# Altium schematic symbol library Schlib.SchLib: 25 symbols (part 2 of 2)
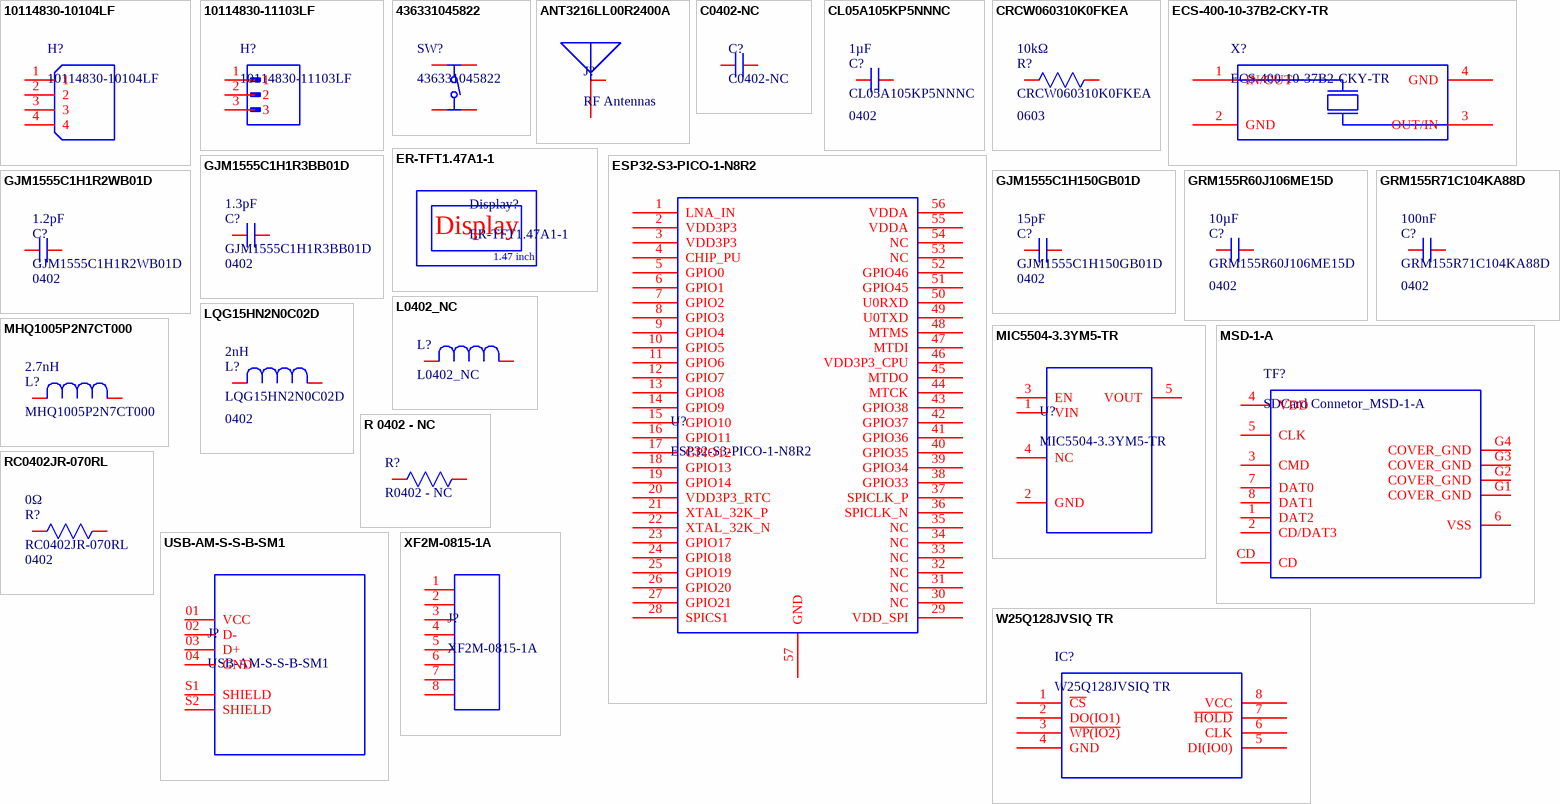
[diagram p1: symbols 10114830-10104LF to XF2M-0815-1A]

## GRM155R60J106ME15D
designator C?  value 10µF  Case/Package: 0402
6.3V 10uF X5R ±20% 0402 Multilayer Ceramic Capacitors MLCC - SMD/SMT ROHS; Manufacturer: Murata; Manufacturer Lifecycle Status: IN PRODUCTION; Supplier: DigiKey; Supplier Part Number: 490-13238-6-ND; Manufacturer Part Number: GRM155R60J106ME15D; RoHS: Compliant; Category: Ceramic Capacitors; Stock: 101484; Pricing: 1=0,16, 10=0,088, 50=0,0618, 100=0,0538, 500=0,04036, 1000=0,03624, 2500=0,0319, 5000=0,02929 (USD); Case Code (Imperial): 0402; Case Code (Metric): 1005; Dielectric: X5R; Dielectric Material: Ceramic; Height: 500µm; Length: 1mm; Lifecycle Status: Production; Material: Ceramic; Max Operating Temperature: 85°C; Min Operating Temperature: -55°C; Mounting Technology: Surface Mount; Number of Terminals: 2; REACH SVHC: Yes; Schedule B: 8532240020, 8532240020|8532240020, 8532240020|8532240020|8532240020, 8532240020|8532240020|8532240020|8532240020; Thickness: 500µm; Tolerance: 20%; Voltage Rating: 6.3V; Voltage Rating (DC): 6.3V; Width: 500µm; ComponentLink1URL: https://datasheet.octopart.com:443/GRM155R60J106ME15D-Murata-datasheet-149522992.pdf?src-supplier=Newark; ComponentLink1Description: https://datasheet.octopart.com:443/GRM155R60J106ME15D-Murata-datasheet-149522992.pdf?src-supplier=Newark; ComponentLink2URL: https://datasheet.octopart.com:443/GRM155R60J106ME15D-Murata-datasheet-165579666.pdf?src-supplier=TME; ComponentLink2Description: https://datasheet.octopart.com:443/GRM155R60J106ME15D-Murata-datasheet-165579666.pdf?src-supplier=TME; ComponentLink3URL: https://datasheet.octopart.com:443/GRM155R60J106ME15D-Murata-datasheet-141266224.pdf?src-supplier=Ciiva; ComponentLink3Description: https://datasheet.octopart.com:443/GRM155R60J106ME15D-Murata-datasheet-141266224.pdf?src-supplier=Ciiva; ComponentLink4URL: https://datasheet.octopart.com:443/GRM155R60J106ME15D-Murata-datasheet-140689297.pdf?src-supplier=Ciiva; ComponentLink4Description: https://datasheet.octopart.com:443/GRM155R60J106ME15D-Murata-datasheet-140689297.pdf?src-supplier=Ciiva; ComponentLink5URL: https://datasheet.octopart.com:443/GRM155R60J106ME15D-Murata-datasheet-138740639.pdf?src-supplier=Ciiva; ComponentLink5Description: https://datasheet.octopart.com:443/GRM155R60J106ME15D-Murata-datasheet-138740639.pdf?src-supplier=Ciiva; ComponentLink6URL: https://datasheet.octopart.com:443/GRM155R60J106ME15D-Murata-datasheet-102370999.pdf?src-supplier=HQonline; ComponentLink6Description: https://datasheet.octopart.com:443/GRM155R60J106ME15D-Murata-datasheet-102370999.pdf?src-supplier=HQonline; ComponentLink7URL: https://datasheet.octopart.com/GRM155R60J106ME15D-Murata-datasheet-12515295.pdf; ComponentLink7Description: https://datasheet.octopart.com/GRM155R60J106ME15D-Murata-datasheet-12515295.pdf; ComponentLink8URL: https://datasheet.octopart.com/GRM155R60J106ME15D-Murata-datasheet-12510076.pdf; ComponentLink8Description: https://datasheet.octopart.com/GRM155R60J106ME15D-Murata-datasheet-12510076.pdf; ComponentLink9URL: https://datasheet.octopart.com/GRM155R60J106ME15D-Murata-datasheet-11978611.pdf; ComponentLink9Description: https://datasheet.octopart.com/GRM155R60J106ME15D-Murata-datasheet-11978611.pdf; ComponentLink10URL: https://datasheet.octopart.com/GRM155R60J106ME15D-Murata-datasheet-10025737.pdf; ComponentLink10Description: https://datasheet.octopart.com/GRM155R60J106ME15D-Murata-datasheet-10025737.pdf; ComponentLink11URL: https://datasheet.octopart.com/GRM155R60J106ME15D-Murata-datasheet-8819587.pdf; ComponentLink11Description: https://datasheet.octopart.com/GRM155R60J106ME15D-Murata-datasheet-8819587.pdf; ComponentLink12URL: http://sigma.octopart.com:80/reach_statement/Murata-company-16.pdf?src-supplier=Compliance+Statements; ComponentLink12Description: http://sigma.octopart.com:80/reach_statement/Murata-company-16.pdf?src-supplier=Compliance+Statements; LCSC Part: C412251
footprint CAPC1005X55N
pins: 1, 2

## GRM155R71C104KA88D
designator C?  value 100nF  Case/Package: 0402
16V 100nF X7R ±10% 0402 Multilayer Ceramic Capacitors MLCC - SMD/SMT ROHS; Manufacturer: Murata; Manufacturer Lifecycle Status: NRND; Insulation Resistance: 10GΩ; Supplier: DigiKey; Supplier Part Number: 490-3261-1-ND; Manufacturer Part Number: GRM155R71C104KA88D; RoHS: Compliant; Category: Ceramic Capacitors; Stock: 10363582; Pricing: 1=0,1, 10=0,024, 50=0,0156, 100=0,0132, 500=0,00926, 1000=0,00805, 2500=0,00678, 5000=0,00602 (USD); Case Code (Imperial): 0402; Case Code (Metric): 1005; Country of Origin: Japan, Mainland China, Philippines, Singapore, Thailand; Depth: 500µm; Dielectric: X7R; Dielectric Material: Ceramic; Export Control Classification Number (ECCN) Code: EAR99; Height: 500µm; Harmonized Tariff Schedule (HTS) Code: 8532.24.00.20; Introduction Date: 2004-11-19; Lead Free: Lead Free; Length: 1mm; Lifecycle Status: NRND; Material: Ceramic; Max Operating Temperature: 125°C; Min Operating Temperature: -55°C; Mounting Technology: Surface Mount; Pins: 2; Number of Terminals: 2; Packaging: Cut Tape; Radiation Hardening: No; REACH SVHC: Yes; Schedule B: 8532240020, 8532240020|8532240020|8532240020|8532240020|8532240020|8532240020|8532240020|8532240020|8532240020|8532240020|8532240020|8532240020|8532240020, 8532240020|8532240020|8532240020|8532240020|8532240020|8532240020|8532240020|8532240020|8532240020|8532240020|8532240020|8532240020|8532240020|8532240020, 8532240020|8532240020|8532240020|8532240020|8532240020|8532240020|8532240020|8532240020|8532240020|8532240020|8532240020|8532240020|8532240020|8532240020|8532240020; Termination: SMD/SMT; Thickness: 500µm; Tolerance: 10%; Voltage: 16V; Voltage Rating: 16V; Voltage Rating (DC): 16V; Width: 500µm; ComponentLink1URL: https://datasheet.octopart.com:443/GRM155R71C104KA88D-Murata-datasheet-6387203.pdf?src-supplier=Upverter; ComponentLink1Description: https://datasheet.octopart.com:443/GRM155R71C104KA88D-Murata-datasheet-6387203.pdf?src-supplier=Upverter; ComponentLink2URL: https://datasheet.octopart.com:443/GRM155R71C104KA88D-Murata-datasheet-501912.pdf?src-supplier=Farnell; ComponentLink2Description: https://datasheet.octopart.com:443/GRM155R71C104KA88D-Murata-datasheet-501912.pdf?src-supplier=Farnell; ComponentLink3URL: https://datasheet.octopart.com:443/GRM155R71C104KA88D-Murata-datasheet-62320226.pdf?src-supplier=Farnell; ComponentLink3Description: https://datasheet.octopart.com:443/GRM155R71C104KA88D-Murata-datasheet-62320226.pdf?src-supplier=Farnell; ComponentLink4URL: https://datasheet.octopart.com:443/GRM155R71C104KA88D-Murata-datasheet-514334.pdf?src-supplier=Farnell; ComponentLink4Description: https://datasheet.octopart.com:443/GRM155R71C104KA88D-Murata-datasheet-514334.pdf?src-supplier=Farnell; ComponentLink5URL: https://datasheet.octopart.com:443/GRM155R71C104KA88D-Murata-datasheet-165579666.pdf?src-supplier=TME; ComponentLink5Description: https://datasheet.octopart.com:443/GRM155R71C104KA88D-Murata-datasheet-165579666.pdf?src-supplier=TME; ComponentLink6URL: https://datasheet.octopart.com:443/GRM155R71C104KA88D-Murata-datasheet-81455578.pdf?src-supplier=TME; ComponentLink6Description: https://datasheet.octopart.com:443/GRM155R71C104KA88D-Murata-datasheet-81455578.pdf?src-supplier=TME; ComponentLink7URL: https://datasheet.octopart.com:443/GRM155R71C104KA88D-Murata-datasheet-59876780.pdf?src-supplier=TME; ComponentLink7Description: https://datasheet.octopart.com:443/GRM155R71C104KA88D-Murata-datasheet-59876780.pdf?src-supplier=TME; ComponentLink8URL: https://datasheet.octopart.com:443/GRM155R71C104KA88D-Murata-datasheet-141266224.pdf?src-supplier=Ciiva; ComponentLink8Description: https://datasheet.octopart.com:443/GRM155R71C104KA88D-Murata-datasheet-141266224.pdf?src-supplier=Ciiva; ComponentLink9URL: https://datasheet.octopart.com:443/GRM155R71C104KA88D-Murata-datasheet-140690972.pdf?src-supplier=Ciiva; ComponentLink9Description: https://datasheet.octopart.com:443/GRM155R71C104KA88D-Murata-datasheet-140690972.pdf?src-supplier=Ciiva; ComponentLink10URL: https://datasheet.octopart.com:443/GRM155R71C104KA88D-Murata-datasheet-138740890.pdf?src-supplier=Ciiva; ComponentLink10Description: https://datasheet.octopart.com:443/GRM155R71C104KA88D-Murata-datasheet-138740890.pdf?src-supplier=Ciiva; ComponentLink11URL: https://datasheet.octopart.com:443/GRM155R71C104KA88D-Murata-datasheet-120101189.pdf?src-supplier=Megastar; ComponentLink11Description: https://datasheet.octopart.com:443/GRM155R71C104KA88D-Murata-datasheet-120101189.pdf?src-supplier=Megastar; ComponentLink12URL: https://datasheet.octopart.com:443/GRM155R71C104KA88D-Murata-datasheet-96971104.pdf?src-supplier=Future+Electronics; ComponentLink12Description: https://datasheet.octopart.com:443/GRM155R71C104KA88D-Murata-datasheet-96971104.pdf?src-supplier=Future+Electronics; ComponentLink13URL: https://datasheet.octopart.com:443/GRM155R71C104KA88D-Murata-datasheet-22122223.pdf?src-supplier=Future+Electronics; ComponentLink13Description: https://datasheet.octopart.com:443/GRM155R71C104KA88D-Murata-datasheet-22122223.pdf?src-supplier=Future+Electronics; ComponentLink14URL: https://datasheet.octopart.com:443/GRM155R71C104KA88D-Murata-datasheet-14400564.pdf?src-supplier=Future+Electronics; ComponentLink14Description: https://datasheet.octopart.com:443/GRM155R71C104KA88D-Murata-datasheet-14400564.pdf?src-supplier=Future+Electronics; ComponentLink15URL: https://datasheet.octopart.com:443/GRM155R71C104KA88D-Murata-datasheet-44106293.pdf?src-supplier=Future+Electronics; ComponentLink15Description: https://datasheet.octopart.com:443/GRM155R71C104KA88D-Murata-datasheet-44106293.pdf?src-supplier=Future+Electronics; ComponentLink16URL: https://datasheet.octopart.com/GRM155R71C104KA88D-Murata-datasheet-12515295.pdf; ComponentLink16Description: https://datasheet.octopart.com/GRM155R71C104KA88D-Murata-datasheet-12515295.pdf; ComponentLink17URL: https://datasheet.octopart.com/GRM155R71C104KA88D-Murata-datasheet-12510076.pdf; ComponentLink17Description: https://datasheet.octopart.com/GRM155R71C104KA88D-Murata-datasheet-12510076.pdf; ComponentLink18URL: https://datasheet.octopart.com/GRM155R71C104KA88D-Murata-datasheet-11978611.pdf; ComponentLink18Description: https://datasheet.octopart.com/GRM155R71C104KA88D-Murata-datasheet-11978611.pdf; ComponentLink19URL: https://datasheet.octopart.com/GRM155R71C104KA88D-Murata-datasheet-10025737.pdf; ComponentLink19Description: https://datasheet.octopart.com/GRM155R71C104KA88D-Murata-datasheet-10025737.pdf; ComponentLink20URL: https://datasheet.octopart.com/GRM155R71C104KA88D-Murata-datasheet-8819587.pdf; ComponentLink20Description: https://datasheet.octopart.com/GRM155R71C104KA88D-Murata-datasheet-8819587.pdf; ComponentLink21URL: https://datasheet.octopart.com/GRM155R71C104KA88D-Murata-datasheet-12555248.pdf; ComponentLink21Description: https://datasheet.octopart.com/GRM155R71C104KA88D-Murata-datasheet-12555248.pdf; ComponentLink22URL: https://datasheet.octopart.com:443/GRM155R71C104KA88D-Murata-datasheet-11864723.pdf?src-supplier=Arrow+Electronics; ComponentLink22Description: https://datasheet.octopart.com:443/GRM155R71C104KA88D-Murata-datasheet-11864723.pdf?src-supplier=Arrow+Electronics; ComponentLink23URL: https://datasheet.octopart.com:443/GRM155R71C104KA88D-Murata-datasheet-148211.pdf?src-supplier=Garrett; ComponentLink23Description: https://datasheet.octopart.com:443/GRM155R71C104KA88D-Murata-datasheet-148211.pdf?src-supplier=Garrett; ComponentLink24URL: https://datasheet.octopart.com:443/GRM155R71C104KA88D-Murata-datasheet-118811.pdf?src-supplier=DigiKey; ComponentLink24Description: https://datasheet.octopart.com:443/GRM155R71C104KA88D-Murata-datasheet-118811.pdf?src-supplier=DigiKey; ComponentLink25URL: https://datasheet.octopart.com:443/GRM155R71C104KA88D-Murata-datasheet-38265814.pdf?src-supplier=Newark; ComponentLink25Description: https://datasheet.octopart.com:443/GRM155R71C104KA88D-Murata-datasheet-38265814.pdf?src-supplier=Newark; ComponentLink26URL: http://sigma.octopart.com:80/reach_statement/Murata-company-16.pdf?src-supplier=Compliance+Statements; ComponentLink26Description: http://sigma.octopart.com:80/reach_statement/Murata-company-16.pdf?src-supplier=Compliance+Statements; LCSC Part: C71629
footprint CAPC1005X55N
pins: 1, 2

## L0402_NC
designator L?
footprint IND_1005_TDK_NC
pins: 1, 2

## LQG15HN2N0C02D
designator L?  value 2nH  Case/Package: 0402
General Purpose Inductor, 0.002uH, 10%, 1 Element, Reflow soldering, 1005/0402; Manufacturer: Murata; Manufacturer Lifecycle Status: IN PRODUCTION; Core Material: Air; Current Rating: 900mA; DC Resistance (DCR): 90mΩ; Number of Circuits: 1; Q Factor: 8; Self Resonant Frequency: 6GHz; Shielding: Unshielded; Test Frequency: 100MHz; Supplier: DigiKey; Supplier Part Number: 490-15076-6-ND; Manufacturer Part Number: LQG15HN2N0C02D; RoHS: Compliant; Category: Fixed Inductors; Stock: 65005; Pricing: 1=0,1, 10=0,045, 25=0,0416, 50=0,039, 100=0,0368, 250=0,03408, 500=0,03212, 1000=0,03028, 2500=0,02801 (USD); Country of Origin: Japan; Export Control Classification Number (ECCN) Code: EAR99; Height: 500µm; Harmonized Tariff Schedule (HTS) Code: 8504.50.80.00; Introduction Date: 2018-02-22; Length: 1mm; Lifecycle Status: Production; Max Current Rating: 900mA; Max Operating Temperature: 125°C; Min Operating Temperature: -55°C; Number of Terminals: 2; REACH SVHC: Yes; RMS Current (Irms): 900mA; Schedule B: 8504500000, 8504500000|8504500000|8504500000|8504500000|8504500000; ESR: 90mΩ; Tolerance: 10%; Width: 500µm; ComponentLink1URL: https://datasheet.octopart.com:443/LQG15HN2N0C02D-Murata-datasheet-141286051.pdf?src-supplier=Ciiva; ComponentLink1Description: https://datasheet.octopart.com:443/LQG15HN2N0C02D-Murata-datasheet-141286051.pdf?src-supplier=Ciiva; ComponentLink2URL: https://datasheet.octopart.com:443/LQG15HN2N0C02D-Murata-datasheet-140712106.pdf?src-supplier=Ciiva; ComponentLink2Description: https://datasheet.octopart.com:443/LQG15HN2N0C02D-Murata-datasheet-140712106.pdf?src-supplier=Ciiva; ComponentLink3URL: https://datasheet.octopart.com:443/LQG15HN2N0C02D-Murata-datasheet-138753224.pdf?src-supplier=Ciiva; ComponentLink3Description: https://datasheet.octopart.com:443/LQG15HN2N0C02D-Murata-datasheet-138753224.pdf?src-supplier=Ciiva; ComponentLink4URL: https://datasheet.octopart.com:443/LQG15HN2N0C02D-Murata-datasheet-142219898.pdf?src-supplier=Arrow.cn; ComponentLink4Description: https://datasheet.octopart.com:443/LQG15HN2N0C02D-Murata-datasheet-142219898.pdf?src-supplier=Arrow.cn; ComponentLink5URL: https://datasheet.octopart.com:443/LQG15HN2N0C02D-Murata-datasheet-140568920.pdf?src-supplier=Arrow.cn; ComponentLink5Description: https://datasheet.octopart.com:443/LQG15HN2N0C02D-Murata-datasheet-140568920.pdf?src-supplier=Arrow.cn; ComponentLink6URL: https://datasheet.octopart.com:443/LQG15HN2N0C02D-Murata-datasheet-145449623.pdf?src-supplier=Geoflip; ComponentLink6Description: https://datasheet.octopart.com:443/LQG15HN2N0C02D-Murata-datasheet-145449623.pdf?src-supplier=Geoflip; ComponentLink7URL: https://datasheet.octopart.com:443/LQG15HN2N0C02D-Murata-datasheet-140317006.pdf?src-supplier=Farnell; ComponentLink7Description: https://datasheet.octopart.com:443/LQG15HN2N0C02D-Murata-datasheet-140317006.pdf?src-supplier=Farnell; ComponentLink8URL: http://sigma.octopart.com:80/reach_statement/Murata-company-16.pdf?src-supplier=Compliance+Statements; ComponentLink8Description: http://sigma.octopart.com:80/reach_statement/Murata-company-16.pdf?src-supplier=Compliance+Statements; LCSC Part: C2043639
footprint INDC1005X55N
pins: 1, 2

## MHQ1005P2N7CT000
designator L?  value 2.7nH
General Purpose Inductor, 0.0027uH, 7.4074%, 1 Element, Ceramic-Core, SMD, 0402; Manufacturer: TDK; Manufacturer Lifecycle Status: PRODUCTION; Current Rating: 900mA; DC Resistance (DCR): 70mΩ; Number of Circuits: 1; Q Factor: 23; Self Resonant Frequency: 6.5GHz; Shielding: Unshielded; Test Frequency: 100MHz; Tolerance: 0.07%; Supplier: DigiKey; Supplier Part Number: 445-172420-2-ND; Manufacturer Part Number: MHQ1005P2N7CT000; RoHS: Compliant; Category: Fixed Inductors; Stock: 10000; Pricing: 10000=0,05758, 20000=0,0543, 30000=0,05247, 50000=0,05025, 70000=0,04884, 100000=0,04739 (USD); Case/Package: 0402; Case Code (Imperial): 0402; Case Code (Metric): 1005; Core Material: Ceramic; Export Control Classification Number (ECCN) Code: EAR99; Height: 500µm; Height - Seated (Max): 609.6µm; Harmonized Tariff Schedule (HTS) Code: 8504.50.80.00; Introduction Date: 2013-10-01; Length: 1mm; Lifecycle Status: Production; Max Current Rating: 900mA; Max DC Current: 900mA; Max Length: 1.05mm; Max Operating Temperature: 125°C; Max Width: 650µm; Min Length: 950µm; Min Operating Temperature: -55°C; Min Width: 550µm; Mounting Technology: Surface Mount; Number of Terminals: 2; Packaging: Cut Tape (CT); REACH SVHC: Yes; Termination: SMD/SMT; Weight: 652.039032µg; Width: 600µm; ComponentLink1URL: https://datasheet.octopart.com:443/MHQ1005P2N7CT000-TDK-datasheet-181268076.pdf?src-supplier=IHS; ComponentLink1Description: https://datasheet.octopart.com:443/MHQ1005P2N7CT000-TDK-datasheet-181268076.pdf?src-supplier=IHS; ComponentLink2URL: https://datasheet.octopart.com:443/MHQ1005P2N7CT000-TDK-datasheet-155380095.pdf?src-supplier=ODG+(Origin+Data+Global); ComponentLink2Description: https://datasheet.octopart.com:443/MHQ1005P2N7CT000-TDK-datasheet-155380095.pdf?src-supplier=ODG+(Origin+Data+Global); ComponentLink3URL: https://datasheet.octopart.com:443/MHQ1005P2N7CT000-TDK-datasheet-136874815.pdf?src-supplier=TME; ComponentLink3Description: https://datasheet.octopart.com:443/MHQ1005P2N7CT000-TDK-datasheet-136874815.pdf?src-supplier=TME; ComponentLink4URL: https://datasheet.octopart.com:443/MHQ1005P2N7CT000-TDK-datasheet-41546101.pdf?src-supplier=Future+Electronics; ComponentLink4Description: https://datasheet.octopart.com:443/MHQ1005P2N7CT000-TDK-datasheet-41546101.pdf?src-supplier=Future+Electronics; LCSC Part: C434841
footprint IND_1005_TDK
pins: 1, 2

## MIC5504-3.3YM5-TR
designator U?
MIC5504 Series 3.3 V 300 mA Surface Mount Fixed Single Output LDO - SOT-23-5; Manufacturer: Microchip; Manufacturer Lifecycle Status: REL; Accuracy: 2%; Dropout Voltage: 160mV; Max Supply Voltage: 5.5V; Max Junction Temperature (Tj): 125°C; Max Output current: 300mA; Min Current Limit: 400mA; Min Input Voltage: 2.5V; Nominal Output Voltage: 3.3V; Number of Channels: 1; Operating Supply Current: 42µA; Output Voltage: 3.3mV; Power Supply Rejection Ratio (PSRR): 60dB; Quiescent Current: 38µA; Supplier: DigiKey; Supplier Part Number: 576-4764-6-ND; Manufacturer Part Number: MIC5504-3.3YM5-TR; RoHS: Compliant; Category: LDO Voltage Regulators; Stock: 122252; Pricing: 1=0,16, 25=0,1224 (USD); Projected EOL Date: 2039-05-20; Case/Package: SOT-23; Country of Assembly: Thailand; Country of Fabrication: South Korea; Country of Origin: Thailand; Export Control Classification Number (ECCN) Code: EAR99; Height: 1.45mm; HS Code: 8542.39.0090; Harmonized Tariff Schedule (HTS) Code: 8542.39.0060; Lead Free: Lead Free; Length: 2.9mm; Lifecycle Status: Production; Max Operating Temperature: 125°C; Min Operating Temperature: -40°C; Min Supply Voltage: 2.5V; Mounting Technology: Surface Mount; Number of Outputs: 1; Pins: 5; Number of Regulators: 1; Output Current: 300mA; Output Type: Fixed; Packaging: Cut Tape; REACH SVHC: No; Schedule B: 8542390000, 8542390000|8542390000|8542390000|8542390000|8542390000; Width: 1.6mm; ComponentLink1URL: https://datasheet.octopart.com:443/MIC5504-3.3YM5-TR-Microchip-datasheet-178203070.pdf?src-supplier=Microchip; ComponentLink1Description: https://datasheet.octopart.com:443/MIC5504-3.3YM5-TR-Microchip-datasheet-178203070.pdf?src-supplier=Microchip; ComponentLink2URL: https://datasheet.octopart.com:443/MIC5504-3.3YM5-TR-Microchip-datasheet-137404938.pdf?src-supplier=Microchip; ComponentLink2Description: https://datasheet.octopart.com:443/MIC5504-3.3YM5-TR-Microchip-datasheet-137404938.pdf?src-supplier=Microchip; ComponentLink3URL: https://datasheet.octopart.com:443/MIC5504-3.3YM5-TR-Microchip-datasheet-138897052.pdf?src-supplier=SOS+electronic; ComponentLink3Description: https://datasheet.octopart.com:443/MIC5504-3.3YM5-TR-Microchip-datasheet-138897052.pdf?src-supplier=SOS+electronic; ComponentLink4URL: https://datasheet.octopart.com:443/MIC5504-3.3YM5-TR-Microchip-datasheet-61114938.pdf?src-supplier=element14+APAC; ComponentLink4Description: https://datasheet.octopart.com:443/MIC5504-3.3YM5-TR-Microchip-datasheet-61114938.pdf?src-supplier=element14+APAC; ComponentLink5URL: https://datasheet.octopart.com:443/MIC5504-3.3YM5-TR-Microchip-datasheet-33028821.pdf?src-supplier=Newark; ComponentLink5Description: https://datasheet.octopart.com:443/MIC5504-3.3YM5-TR-Microchip-datasheet-33028821.pdf?src-supplier=Newark; ComponentLink6URL: https://datasheet.octopart.com:443/MIC5504-3.3YM5-TR-Microchip-datasheet-137453438.pdf?src-supplier=Master+Electronics; ComponentLink6Description: https://datasheet.octopart.com:443/MIC5504-3.3YM5-TR-Microchip-datasheet-137453438.pdf?src-supplier=Master+Electronics; ComponentLink7URL: https://datasheet.octopart.com:443/MIC5504-3.3YM5-TR-Microchip-datasheet-142675560.pdf?src-supplier=TME; ComponentLink7Description: https://datasheet.octopart.com:443/MIC5504-3.3YM5-TR-Microchip-datasheet-142675560.pdf?src-supplier=TME; ComponentLink8URL: http://sigma.octopart.com:80/188454461/materials_sheet/Microchip-MIC5504-3.3YM5-TR.pdf?src-supplier=Compliance+Statements; ComponentLink8Description: http://sigma.octopart.com:80/188454461/materials_sheet/Microchip-MIC5504-3.3YM5-TR.pdf?src-supplier=Compliance+Statements; ComponentLink9URL: http://sigma.octopart.com:80/rohs_statement/Microchip-company-71.pdf?src-supplier=Compliance+Statements; ComponentLink9Description: http://sigma.octopart.com:80/rohs_statement/Microchip-company-71.pdf?src-supplier=Compliance+Statements; ComponentLink10URL: http://sigma.octopart.com:80/reach_statement/Microchip-company-70.pdf?src-supplier=Compliance+Statements; ComponentLink10Description: http://sigma.octopart.com:80/reach_statement/Microchip-company-70.pdf?src-supplier=Compliance+Statements; ComponentLink11URL: http://sigma.octopart.com:80/conflict_mineral_statement/Microchip-company-69.pdf?src-supplier=Compliance+Statements; ComponentLink11Description: http://sigma.octopart.com:80/conflict_mineral_statement/Microchip-company-69.pdf?src-supplier=Compliance+Statements; ComponentLink12URL: http://sigma.octopart.com:80/conflict_mineral_statement/Microchip-company-68.pdf?src-supplier=Compliance+Statements; ComponentLink12Description: http://sigma.octopart.com:80/conflict_mineral_statement/Microchip-company-68.pdf?src-supplier=Compliance+Statements; LCSC Part: C88419
footprint SOT-23-5_MC_MCH
pins: 1 VIN, 2 GND, 3 EN, 4 NC, 5 VOUT

## MSD-1-A
designator TF?, comment SDCard Connetor_MSD-1-A
Card Connector, Micro Sd, Push In Auto Eject Out Rohs Compliant: Yes |Same Sky MSD-1-A; Number of Contacts: 9; Supplier: DigiKey; Supplier Part Number: 2223-MSD-1-ADKR-ND; Manufacturer: Same Sky; Manufacturer Part Number: MSD-1-A; RoHS: Compliant; Category: Card Edge Connectors; Stock: 22918; Pricing: 1=0,38, 10=0,337, 25=0,3212, 50=0,3096, 100=0,2985, 250=0,28452, 500=0,27438 (USD); Lifecycle Status: Production; Pins: 9; ComponentLink1URL: https://datasheet.octopart.com:443/MSD-1-A-Same-Sky-datasheet-188826037.pdf?src-supplier=Future+Electronics; ComponentLink1Description: https://datasheet.octopart.com:443/MSD-1-A-Same-Sky-datasheet-188826037.pdf?src-supplier=Future+Electronics; ComponentLink2URL: https://datasheet.octopart.com:443/MSD-1-A-Same-Sky-datasheet-181916823.pdf?src-supplier=Same+Sky; ComponentLink2Description: https://datasheet.octopart.com:443/MSD-1-A-Same-Sky-datasheet-181916823.pdf?src-supplier=Same+Sky; ComponentLink3URL: https://datasheet.octopart.com:443/MSD-1-A-Same-Sky-datasheet-187906752.pdf?src-supplier=Master+Electronics; ComponentLink3Description: https://datasheet.octopart.com:443/MSD-1-A-Same-Sky-datasheet-187906752.pdf?src-supplier=Master+Electronics; ComponentLink4URL: https://datasheet.octopart.com:443/MSD-1-A-Same-Sky-datasheet-189105030.pdf?src-supplier=Master+Electronics; ComponentLink4Description: https://datasheet.octopart.com:443/MSD-1-A-Same-Sky-datasheet-189105030.pdf?src-supplier=Master+Electronics; ComponentLink5URL: https://datasheet.octopart.com:443/MSD-1-A-Same-Sky-datasheet-192927133.pdf?src-supplier=Farnell; ComponentLink5Description: https://datasheet.octopart.com:443/MSD-1-A-Same-Sky-datasheet-192927133.pdf?src-supplier=Farnell; ComponentLink6URL: https://octopart.com:443/opatz8j6/c1?t=vp1p1RiQ7_bbECyTA0y4sfTKdNK0uxHJB4IJybVem8wfn_d81AkevM-28rbvRvGobWwflIHzG1kFMVOfj4kHg7XvkbfSCEJ7QJUOw8RagXeSWULw5ToeuFDdJR7Bt4vxDtry0ssBHcqByyX6VfftwN1L4faraza0AI-7RGbWMwA6F9LSqLt9_EMr0BxlEhXuXrshFT8wtW-WV5rQURwZJFG16ertrOprtftK68kM6a6LFeToBh8QSflZEyNvhx9JPCtmtoosfXqgwYVYCg7S3alAAaytfdeoLFI4QoT-ekVsdXkV83oacCLK0qWz3So_Qz_4GnTlkdSuyzdB_i-sEeuXWT3vb9ZdCw&src-supplier=Compliance+Statements; ComponentLink6Description: https://octopart.com:443/opatz8j6/c1?t=vp1p1RiQ7_bbECyTA0y4sfTKdNK0uxHJB4IJybVem8wfn_d81AkevM-28rbvRvGobWwflIHzG1kFMVOfj4kHg7XvkbfSCEJ7QJUOw8RagXeSWULw5ToeuFDdJR7Bt4vxDtry0ssBHcqByyX6VfftwN1L4faraza0AI-7RGbWMwA6F9LSqLt9_EMr0BxlEhXuXrshFT8wtW-WV5rQURwZJFG16ertrOprtftK68kM6a6LFeToBh8QSflZEyNvhx9JPCtmtoosfXqgwYVYCg7S3alAAaytfdeoLFI4QoT-ekVsdXkV83oacCLK0qWz3So_Qz_4GnTlkdSuyzdB_i-sEeuXWT3vb9ZdCw&src-supplier=Compliance+Statements; ComponentLink7URL: https://octopart.com:443/opatz8j6/c1?t=wAi6ISJASBnr8eO6lSjSIHP2me3m_9JM9t7W5VqSuSqxXYYJcLah3NUVD-7KOeeDFDGTRMzH8uuSVpkC-dK8fDh7z78_Zz7yIXmwbgIJI1qZCq7xwXiaEBLQXT6ZnDMy6rrDwlb80FwwLiQM50BkdkbR5EeE1LfLeWHnwravg99_jLWlkSIiScvx2zQpJINNM4l5hIZMqDUJfGPmTvGFOpba4p3TKJetJ1SK5RMzhW7EBLCMyaFc11RY6XyCtek_Rl1wWLfJ0x3653ljfiWvaBt52Rr3c_7yFcHOKK0ZDwbDeFPkBPIVfLA_uDjBt4Uz3XRATwQr3zhnt-anWoerKFWB3yJpHzj1KQ&src-supplier=Compliance+Statements; ComponentLink7Description: https://octopart.com:443/opatz8j6/c1?t=wAi6ISJASBnr8eO6lSjSIHP2me3m_9JM9t7W5VqSuSqxXYYJcLah3NUVD-7KOeeDFDGTRMzH8uuSVpkC-dK8fDh7z78_Zz7yIXmwbgIJI1qZCq7xwXiaEBLQXT6ZnDMy6rrDwlb80FwwLiQM50BkdkbR5EeE1LfLeWHnwravg99_jLWlkSIiScvx2zQpJINNM4l5hIZMqDUJfGPmTvGFOpba4p3TKJetJ1SK5RMzhW7EBLCMyaFc11RY6XyCtek_Rl1wWLfJ0x3653ljfiWvaBt52Rr3c_7yFcHOKK0ZDwbDeFPkBPIVfLA_uDjBt4Uz3XRATwQr3zhnt-anWoerKFWB3yJpHzj1KQ&src-supplier=Compliance+Statements; LCSC Part: C20619272
footprint CUI_MSD-1-A
pins: 1 DAT2, 2 CD/DAT3, 3 CMD, 4 VDD, 5 CLK, 6 VSS, 7 DAT0, 8 DAT1, CD, G1 COVER_GND, G2 COVER_GND, G3 COVER_GND, G4 COVER_GND

## R 0402 - NC
designator R?, comment R0402 - NC
footprint R 0402-NC
pins: 1, 2

## RC0402JR-070RL
designator R?  value 0Ω  Case/Package: 0402
GENERAL PURPOSE CHIP RESISTOR Metal Glaze/thick Film, 0.0625W, 0ohm, Surface Mount, 0402; Manufacturer: Yageo Group; Max Power Dissipation: 63mW; Power Rating: 62.5mW; Temperature Coefficient: 200ppm/°C; Tolerance: 5%; Voltage Rating: 50V; Supplier: DigiKey; Supplier Part Number: 311-0.0JRDKR-ND; Manufacturer Part Number: RC0402JR-070RL; RoHS: Compliant; Category: Chip SMD Resistors; Stock: 12719023; Pricing: 1=0,1, 10=0,010, 25=0,0064, 50=0,0056, 100=0,0048, 250=0,00404, 500=0,00356, 1000=0,00313, 5000=0,00237 (USD); Case Code (Imperial): 0402; China RoHS: Non-Compliant; Composition: Thick Film; Contact Plating: Tin; Depth: 500µm; Features: Moisture Resistant; Height: 350µm; Lead Free: Lead Free; Length: 1mm; Lifecycle Status: Production; Max Operating Temperature: 155°C; Military Standard: Not; Min Operating Temperature: -55°C; Mounting Technology: Surface Mount; Pins: 2; Number of Terminals: 2; Number of Terminations: 2; Packaging: Tape & Reel; Radiation Hardening: No; REACH SVHC: Yes; Schedule B: 8533290000, 8533290000|8533290000, 8533290000|8533290000|8533290000, 8533290000|8533290000|8533290000|8533290000; Termination: SMD/SMT; Voltage Rating (DC): 50V; Width: 500µm; ComponentLink1URL: https://datasheet.octopart.com:443/RC0402JR-070RL-Yageo-datasheet-182189538.pdf?src-supplier=IHS; ComponentLink1Description: https://datasheet.octopart.com:443/RC0402JR-070RL-Yageo-datasheet-182189538.pdf?src-supplier=IHS; ComponentLink2URL: https://datasheet.octopart.com:443/RC0402JR-070RL-Yageo-datasheet-10408619.pdf?src-supplier=Newark; ComponentLink2Description: https://datasheet.octopart.com:443/RC0402JR-070RL-Yageo-datasheet-10408619.pdf?src-supplier=Newark; ComponentLink3URL: https://datasheet.octopart.com:443/RC0402JR-070RL-Yageo-Group-datasheet-181964826.pdf?src-supplier=Newark; ComponentLink3Description: https://datasheet.octopart.com:443/RC0402JR-070RL-Yageo-Group-datasheet-181964826.pdf?src-supplier=Newark; ComponentLink4URL: https://datasheet.octopart.com:443/RC0402JR-070RL-Yageo-Group-datasheet-190305687.pdf?src-supplier=Future+Electronics; ComponentLink4Description: https://datasheet.octopart.com:443/RC0402JR-070RL-Yageo-Group-datasheet-190305687.pdf?src-supplier=Future+Electronics; ComponentLink5URL: https://datasheet.octopart.com:443/RC0402JR-070RL-Yageo-datasheet-164759695.pdf?src-supplier=Future+Electronics; ComponentLink5Description: https://datasheet.octopart.com:443/RC0402JR-070RL-Yageo-datasheet-164759695.pdf?src-supplier=Future+Electronics; ComponentLink6URL: https://datasheet.octopart.com:443/RC0402JR-070RL-Yageo-datasheet-137700087.pdf?src-supplier=Future+Electronics; ComponentLink6Description: https://datasheet.octopart.com:443/RC0402JR-070RL-Yageo-datasheet-137700087.pdf?src-supplier=Future+Electronics; ComponentLink7URL: https://datasheet.octopart.com:443/RC0402JR-070RL-Yageo-datasheet-12531192.pdf?src-supplier=Seeed+Studio; ComponentLink7Description: https://datasheet.octopart.com:443/RC0402JR-070RL-Yageo-datasheet-12531192.pdf?src-supplier=Seeed+Studio; ComponentLink8URL: https://datasheet.octopart.com:443/RC0402JR-070RL-Yageo-datasheet-8324527.pdf?src-supplier=TME; ComponentLink8Description: https://datasheet.octopart.com:443/RC0402JR-070RL-Yageo-datasheet-8324527.pdf?src-supplier=TME; ComponentLink9URL: https://datasheet.octopart.com:443/RC0402JR-070RL-Yageo-datasheet-62067350.pdf?src-supplier=Farnell; ComponentLink9Description: https://datasheet.octopart.com:443/RC0402JR-070RL-Yageo-datasheet-62067350.pdf?src-supplier=Farnell; ComponentLink10URL: https://datasheet.octopart.com:443/RC0402JR-070RL-Yageo-datasheet-8329306.pdf?src-supplier=element14; ComponentLink10Description: https://datasheet.octopart.com:443/RC0402JR-070RL-Yageo-datasheet-8329306.pdf?src-supplier=element14; ComponentLink11URL: https://datasheet.octopart.com:443/RC0402JR-070RL-Yageo-datasheet-505231.pdf?src-supplier=element14; ComponentLink11Description: https://datasheet.octopart.com:443/RC0402JR-070RL-Yageo-datasheet-505231.pdf?src-supplier=element14; ComponentLink12URL: https://datasheet.octopart.com:443/RC0402JR-070RL-Yageo-datasheet-175423674.pdf?src-supplier=SOS+electronic; ComponentLink12Description: https://datasheet.octopart.com:443/RC0402JR-070RL-Yageo-datasheet-175423674.pdf?src-supplier=SOS+electronic; ComponentLink13URL: https://datasheet.octopart.com/RC0402JR-070RL-Yageo-datasheet-73766026.pdf; ComponentLink13Description: https://datasheet.octopart.com/RC0402JR-070RL-Yageo-datasheet-73766026.pdf; ComponentLink14URL: http://sigma.octopart.com:80/conflict_mineral_statement/Yageo-company-3.pdf?src-supplier=Compliance+Statements; ComponentLink14Description: http://sigma.octopart.com:80/conflict_mineral_statement/Yageo-company-3.pdf?src-supplier=Compliance+Statements; ComponentLink15URL: http://sigma.octopart.com:80/rohs_statement/Yageo-company-2.pdf?src-supplier=Compliance+Statements; ComponentLink15Description: http://sigma.octopart.com:80/rohs_statement/Yageo-company-2.pdf?src-supplier=Compliance+Statements; LCSC Part: C60485
footprint RC0402N_YAG-M
pins: 1, 2

## USB-AM-S-S-B-SM1
designator J?
USB Connector, USB Type A, USB 2.0, Plug, 4 Positions, Surface Mount, Right Angle; Manufacturer: Samtec; Manufacturer Lifecycle Status: PRODUCTION; Gender: Male; Max Voltage Rating (AC): 30V; Number of Contacts: 4; Number of Ports: 1; Supplier: DigiKey; Supplier Part Number: SAM13046-ND; Manufacturer Part Number: USB-AM-S-S-B-SM1; RoHS: Compliant; Category: Coaxial / RF Cable Assemblies; Stock: 10; Pricing: 1=3,56, 50=2,901, 100=2,462, 500=2,345 (USD); Contact Material: Bronze; Contact Plating: Gold; Depth: 20.7mm; Housing Material: Thermoplastic; Length: 12.5mm; Lifecycle Status: Production; Max Operating Temperature: 85°C; Min Operating Temperature: -50°C; Mounting Technology: Surface Mount; Number of Terminals: 4; Orientation: Right Angle; Packaging: Bulk; Radiation Hardening: No; Termination: Solder; ComponentLink1URL: https://datasheet.octopart.com:443/USB-AM-S-S-B-SM1-Samtec-datasheet-97369336.pdf?src-supplier=Sager+Electronics; ComponentLink1Description: https://datasheet.octopart.com:443/USB-AM-S-S-B-SM1-Samtec-datasheet-97369336.pdf?src-supplier=Sager+Electronics; ComponentLink2URL: https://datasheet.octopart.com:443/USB-AM-S-S-B-SM1-Samtec-datasheet-154665717.pdf?src-supplier=Sager+Electronics; ComponentLink2Description: https://datasheet.octopart.com:443/USB-AM-S-S-B-SM1-Samtec-datasheet-154665717.pdf?src-supplier=Sager+Electronics; ComponentLink3URL: https://sigma.octopart.com:443/97369342/technical_drawing/Samtec-USB-AM-S-S-B-SM1.pdf?src-supplier=Samtec; ComponentLink3Description: https://sigma.octopart.com:443/97369342/technical_drawing/Samtec-USB-AM-S-S-B-SM1.pdf?src-supplier=Samtec; ComponentLink4URL: https://datasheet.octopart.com:443/USB-AM-S-S-B-SM1-Samtec-datasheet-150883678.pdf?src-supplier=Electro+Sonic; ComponentLink4Description: https://datasheet.octopart.com:443/USB-AM-S-S-B-SM1-Samtec-datasheet-150883678.pdf?src-supplier=Electro+Sonic; ComponentLink5URL: https://datasheet.octopart.com:443/USB-AM-S-S-B-SM1-Samtec-datasheet-130009934.pdf?src-supplier=Electro+Sonic; ComponentLink5Description: https://datasheet.octopart.com:443/USB-AM-S-S-B-SM1-Samtec-datasheet-130009934.pdf?src-supplier=Electro+Sonic; ComponentLink6URL: https://datasheet.octopart.com:443/USB-AM-S-S-B-SM1-Samtec-datasheet-21561734.pdf?src-supplier=Farnell; ComponentLink6Description: https://datasheet.octopart.com:443/USB-AM-S-S-B-SM1-Samtec-datasheet-21561734.pdf?src-supplier=Farnell; ComponentLink7URL: https://datasheet.octopart.com:443/USB-AM-S-S-B-SM1-Samtec-datasheet-180264035.pdf?src-supplier=JRH+Electronics; ComponentLink7Description: https://datasheet.octopart.com:443/USB-AM-S-S-B-SM1-Samtec-datasheet-180264035.pdf?src-supplier=JRH+Electronics; ComponentLink8URL: https://datasheet.octopart.com:443/USB-AM-S-S-B-SM1-Samtec-datasheet-120095689.pdf?src-supplier=Toby+Electronics; ComponentLink8Description: https://datasheet.octopart.com:443/USB-AM-S-S-B-SM1-Samtec-datasheet-120095689.pdf?src-supplier=Toby+Electronics; ComponentLink9URL: https://datasheet.octopart.com:443/USB-AM-S-S-B-SM1-Samtec-datasheet-116536465.pdf?src-supplier=Toby+Electronics; ComponentLink9Description: https://datasheet.octopart.com:443/USB-AM-S-S-B-SM1-Samtec-datasheet-116536465.pdf?src-supplier=Toby+Electronics; ComponentLink10URL: https://datasheet.octopart.com:443/USB-AM-S-S-B-SM1-Samtec-datasheet-13694303.pdf?src-supplier=_legacy+Avnet; ComponentLink10Description: https://datasheet.octopart.com:443/USB-AM-S-S-B-SM1-Samtec-datasheet-13694303.pdf?src-supplier=_legacy+Avnet; LCSC Part: C7374540
footprint SAMTEC_USB-AM-S-X-X-SM1
pins: 01 VCC, 02 D-, 03 D+, 04 GND, S1 SHIELD, S2 SHIELD

## W25Q128JVSIQ TR
designator IC?
NOR Flash Serial (SPI, Dual SPI, Quad SPI) 3V/3.3V 128M-bit 16M x 8 6ns 8-Pin SOIC T/R; Manufacturer: Winbond; Frequency: 104MHz; Interface: SPI, Serial; Memory Format: FLASH, NOR; Supplier: DigiKey; Supplier Part Number: 256-W25Q128JVSIQTRCT-ND; Manufacturer Part Number: W25Q128JVSIQ TR; RoHS: Compliant; Category: Flash; Stock: 40140; Pricing: 1=3,72, 10=3,468, 25=3,3672, 50=3,29, 100=3,2127, 250=3,11104, 500=3,03472, 1000=2,95921 (USD); Case/Package: SOIC; Max Operating Temperature: 85°C; Min Operating Temperature: -40°C; Schedule B: 8542320070, 8542320070|8542320070, 8542320070|8542320070|8542320070, 8542320070|8542320070|8542320070|8542320070; ComponentLink1URL: https://datasheet.octopart.com:443/W25Q128JVSIQ-TR-Winbond-datasheet-138104337.pdf?src-supplier=Augswan; ComponentLink1Description: https://datasheet.octopart.com:443/W25Q128JVSIQ-TR-Winbond-datasheet-138104337.pdf?src-supplier=Augswan; LCSC Part: C97521
footprint SOIC_208MIL_WIN-M
pins: 1 ~{CS}, 2 DO(IO1), 3 ~{WP(IO2)}, 4 GND, 5 DI(IO0), 6 CLK, 7 ~{HOLD}, 8 VCC

## XF2M-0815-1A
designator J?
Conn FFC/FPC Connector SKT 8 POS 0.5mm Solder RA SMD Reel; Manufacturer: Omron Electronics Inc-EMC Div; Actuator Material: Liquid Crystal Polymer, Polymer; Contact Location: Side; Contact Resistance: 50mΩ; Current Rating: 500mA; Dielectric Material: Liquid Crystal Polymer; Gender: Receptacle; Insulation Resistance: 100MΩ; Max Voltage Rating (DC): 5.05kV; Number of Contacts: 8; Pitch: 508µm; Plating Thickness: 152.4nm; Voltage Rating: 50V; Wire/Cable Type: Flat Flex; Supplier: Digikey; Supplier Part Number: OR1109CT-ND; Manufacturer Part Number: XF2M-0815-1A; RoHS: Compliant; Category: Card Edge Connectors; Stock: 7488; Pricing: 1=1,33, 10=1,14, 50=1, 100=0,963, 1000=0,774, 10000=0,694 (USD); Ambient Temperature Range High: 85°C; Contact Material: Gold, Nickel; Contact Plating: Gold; Export Control Classification Number (ECCN) Code: EAR99; Flammability Rating: UL94 V-0; Height: 3.1mm; Housing Material: Polymer; Introduction Date: 2012-09-26; Lead Free: Lead Free; Lifecycle Status: Production; Max Current Rating: 500mA; Max Operating Temperature: 85°C; Min Operating Temperature: -30°C; Mounting Technology: Surface Mount; Number of Positions: 8; Number of Rows: 1; Orientation: Right Angle; Packaging: Tape & Reel (TR); REACH SVHC: Yes; Schedule B: 8536694040, 8536694040|8536694040|8536694040|8536694040|8536694040; Terminal Pitch: 508µm; Termination: Solder; Voltage Rating (AC): 50V; ComponentLink1URL: https://datasheet.octopart.com:443/XF2M-0815-1A-Omron-datasheet-67143946.pdf?src-supplier=Farnell; ComponentLink1Description: https://datasheet.octopart.com:443/XF2M-0815-1A-Omron-datasheet-67143946.pdf?src-supplier=Farnell; ComponentLink2URL: https://datasheet.octopart.com:443/XF2M-0815-1A-Omron-datasheet-48845614.pdf?src-supplier=element14+APAC; ComponentLink2Description: https://datasheet.octopart.com:443/XF2M-0815-1A-Omron-datasheet-48845614.pdf?src-supplier=element14+APAC; ComponentLink3URL: https://datasheet.octopart.com:443/XF2M-0815-1A-Omron-datasheet-21210793.pdf?src-supplier=Sager+Electronics; ComponentLink3Description: https://datasheet.octopart.com:443/XF2M-0815-1A-Omron-datasheet-21210793.pdf?src-supplier=Sager+Electronics; ComponentLink4URL: https://datasheet.octopart.com:443/XF2M-0815-1A-Omron-datasheet-150021820.pdf?src-supplier=Sager+Electronics; ComponentLink4Description: https://datasheet.octopart.com:443/XF2M-0815-1A-Omron-datasheet-150021820.pdf?src-supplier=Sager+Electronics; ComponentLink5URL: https://datasheet.octopart.com:443/XF2M-0815-1A-Omron-datasheet-140570497.pdf?src-supplier=Arrow.cn; ComponentLink5Description: https://datasheet.octopart.com:443/XF2M-0815-1A-Omron-datasheet-140570497.pdf?src-supplier=Arrow.cn; ComponentLink6URL: https://datasheet.octopart.com:443/XF2M-0815-1A-Omron-datasheet-17455137.pdf?src-supplier=Electro+Sonic; ComponentLink6Description: https://datasheet.octopart.com:443/XF2M-0815-1A-Omron-datasheet-17455137.pdf?src-supplier=Electro+Sonic; LCSC Part: C3195305
footprint FPC connector 8pin, Pitch 0.5mm + Module_Display 1.14 inch
pins: 1, 2, 3, 4, 5, 6, 7, 8